# Altium footprint library auxiliary_library.PcbLib: 4 footprints
Each footprint in its own frame and in the unit in brackets; x right, y up, seen from the top. Pads: shape width x height; smd on the part's side, far side on the other; paste and mask are expansions set on the pad; w line width, h text height; cw(c..) or ccw(c..) is an arc to the next point about the centre after c.
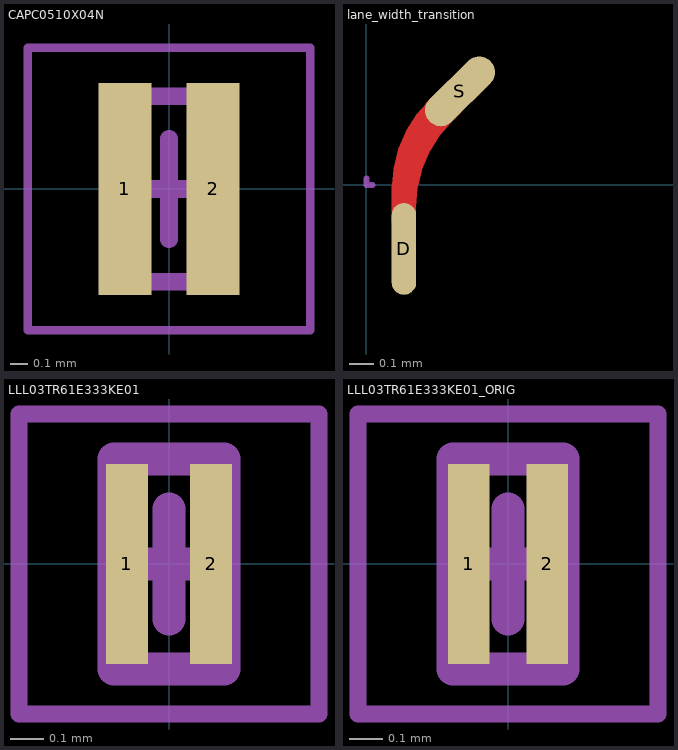
[diagram p0: the footprints below, top view; thin cyan lines are the x and y axes]

## CAPC0510X04N [mm] "Chip Capacitor, 2-Leads, Body 0.52x1.00mm, IPC Medium Density"
height 0.35
pads (2):
  rect 0.3x1.2 smd: 1(-0.25,0) 2(0.25,0)
Mechanical 13:
  lines w0.1: -0.285,-0.525 -0.285,0.525 0.285,0.525 0.285,-0.525 -0.285,-0.525
Mechanical 15:
  lines w0.05: -0.8,-0.8 -0.8,0.8 0.8,0.8 0.8,-0.8 -0.8,-0.8
  lines w0.1: -0.285,0 0.285,0 ; 0,-0.285 0,0.285
3D body "CAPC0510X04N.step": height 0.35, standoff 0, extent -0.285,-0.525 0.285,0.525

## lane_width_transition [mil]
pads (2):
  oval 4x15 smd paste-99999 mask+0: D(6.11,-10.45)
  oval 14x5.18 smd rot 45 paste-99999 mask+0: S(15.27,15.27)
Top Layer:
  region: 4.61,-0.72 5.71,5.81 8.97,11.74 13.29,10.34 10.63,6.95 9.08,3.38 7.86,-0.45
  lines w1: 4.61,-0.72 cw(c24.61,-0.72) 10.74,13.69 ; 7.61,-3.63 cw(c27.61,-3.63) 13.29,10.34
  lines w4: 6.11,-5.89 6.11,-0.45
  lines w5.18: 11.74,11.74 13.37,13.37
Mechanical 1:
  lines w1: 0,1 0,0 1,0

## LLL03TR61E333KE01 [mm] "Chip Capacitor, 2-Leads, Body 0.30x0.60mm, IPC High Density"
height 0.2
pads (2):
  rect 0.125x0.6 smd: 1(-0.126,0) 2(0.126,0)
Mechanical 13:
  lines w0.1: -0.165,-0.315 -0.165,0.315 0.165,0.315 0.165,-0.315 -0.165,-0.315
Mechanical 15:
  lines w0.05: -0.45,-0.45 -0.45,0.45 0.45,0.45 0.45,-0.45 -0.45,-0.45
  lines w0.1: -0.165,0 0.165,0 ; 0,-0.165 0,0.165
3D body "LLL03TR61E333KE01.step": height 0.2, standoff 0, extent -0.165,-0.315 0.165,0.315

## LLL03TR61E333KE01_ORIG [mm] "Chip Capacitor, 2-Leads, Body 0.30x0.60mm, IPC High Density"
height 0.2
pads (2):
  rect 0.125x0.6 smd: 1(-0.118,0) 2(0.118,0)
Mechanical 13:
  lines w0.1: -0.165,-0.315 -0.165,0.315 0.165,0.315 0.165,-0.315 -0.165,-0.315
Mechanical 15:
  lines w0.05: -0.45,-0.45 -0.45,0.45 0.45,0.45 0.45,-0.45 -0.45,-0.45
  lines w0.1: -0.165,0 0.165,0 ; 0,-0.165 0,0.165
3D body "LLL03TR61E333KE01.step": height 0.2, standoff 0, extent -0.165,-0.315 0.165,0.315